# Altium footprint library TDN_5_WISM.PcbLib: 1 footprints
Each footprint in its own frame and in the unit in brackets; x right, y up, seen from the top. Pads: shape width x height; smd on the part's side, far side on the other; paste and mask are expansions set on the pad; w line width, h text height; cw(c..) or ccw(c..) is an arc to the next point about the centre after c.
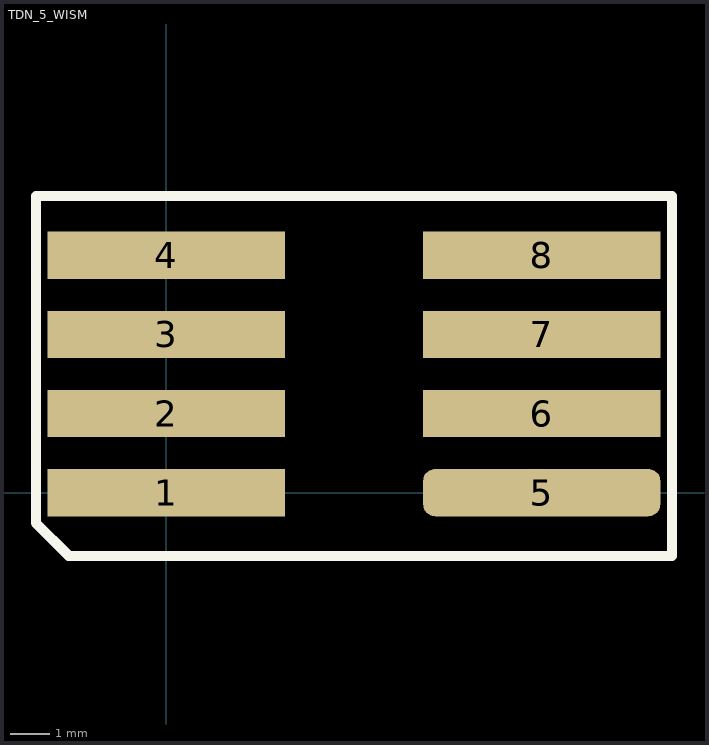
[diagram p0: the footprint, top view; thin cyan lines are the x and y axes]

## TDN_5_WISM [mm] "DC/DC converter case"
pads (8):
  rect 6x1.2 smd: 1(0,0) 2(0,2) 3(0,4) 4(0,6) 6(9.5,2) 7(9.5,4) 8(9.5,6)
  rrect50% 6x1.2 smd: 5(9.5,0)
Top Overlay:
  lines w0.254: -3.3,-0.768 -3.3,7.5 12.8,7.5 12.8,-0.7 12.8,-1.6 11.9,-1.6 -2.468,-1.6 -3.3,-0.768
Mechanical 15:
  text "'.Designator'" at -2.9,2.166 h2
3D body "tdn5wism.STEP": height 10.13, standoff -0.02, extent -2.293,-1.56 11.907,7.54